# Altium footprint library TL431AIZT.PcbLib: 1 footprints
Each footprint in its own frame and in the unit in brackets; x right, y up, seen from the top. Pads: shape width x height; smd on the part's side, far side on the other; paste and mask are expansions set on the pad; w line width, h text height; cw(c..) or ccw(c..) is an arc to the next point about the centre after c.
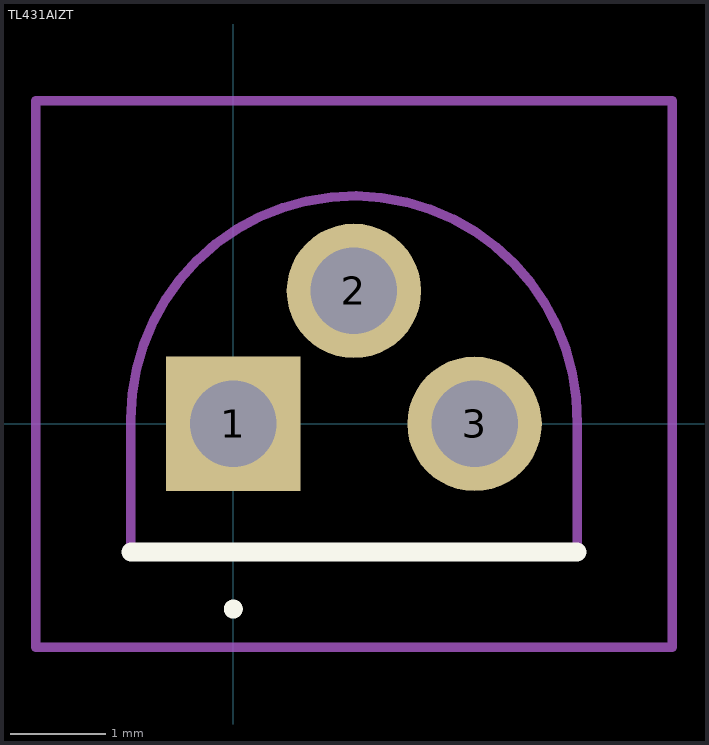
[diagram p0: the footprint, top view; thin cyan lines are the x and y axes]

## TL431AIZT [mm]
pads (3):
  rect 1.416x1.416 hole 0.91: 1(0,0)
  round 1.416 hole 0.91: 2(1.27,1.4) 3(2.54,0)
Top Overlay:
  lines w0.1: 0,-2 0,-2 ; 0,-2 ccw(c0,-1.95) 0,-1.9 ; 0,-2 cw(c0,-1.95) 0,-1.9 ; 0,-1.9 0,-1.9
  lines w0.2: -1.08,-1.35 3.62,-1.35
Mechanical 15:
  lines w0.1: 3.62,0 3.62,-1.35 1.27,-1.35 -1.08,-1.35 -1.08,0.05 ; 3.62,0.001 ccw(c1.271,0.05) -1.079,0.05 ; -1.08,0.05 -1.08,0.05
Mechanical 20:
  lines w0.1: -2.08,-2.35 4.621,-2.35 4.621,3.4 -2.08,3.4 -2.08,-2.35